# Altium footprint library PCB - CONNECTOR - AMPHENOL D_SUB9.PCBLIB: 1 footprints
Each footprint in its own frame and in the unit in brackets; x right, y up, seen from the top. Pads: shape width x height; smd on the part's side, far side on the other; paste and mask are expansions set on the pad; w line width, h text height; cw(c..) or ccw(c..) is an arc to the next point about the centre after c.
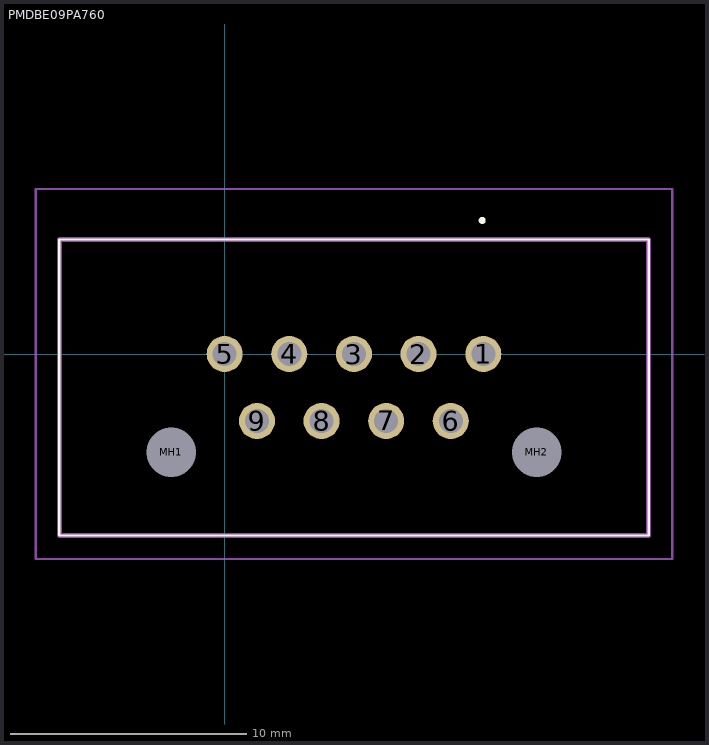
[diagram p0: the footprint, top view; thin cyan lines are the x and y axes]

## PMDBE09PA760 [mm]
pads (11):
  round 1.53 hole 1.02: 1(10.97,0) 2(8.22,0) 3(5.48,0) 4(2.74,0) 5(0,0) 6(9.59,-2.84) 7(6.85,-2.84) 8(4.11,-2.84) 9(1.37,-2.84)
  round 1.05 hole 2.1 unplated: MH1(-2.265,-4.17) MH2(13.235,-4.17)
Top Overlay:
  lines w0.1: -7.01,-7.695 17.98,-7.695 17.98,4.855 -7.01,4.855 -7.01,-7.695
  lines w0.2: 10.922,5.615 ccw(c10.922,5.665) 10.922,5.715 ccw(c10.922,5.665) 10.922,5.615
Top Assembly:
  lines w0.2: -7.01,-7.695 -7.01,4.855 17.98,4.855 17.98,-7.695 -7.01,-7.695
Top Courtyard:
  lines w0.1: -8.01,-8.695 -8.01,7 18.98,7 18.98,-8.695 -8.01,-8.695
Top Designator:
  text ".Designator" at -14.351,11.176 h1
Top Value (Mech13):
  text ".Comment" at -14.351,10.16 h1
3D body "D-Sub.STEP": height 3.77, standoff -15.37, extent -13.35,-12.491 26.05,8.509